# EAGLE library part 74LVC2G02 (library yapo)
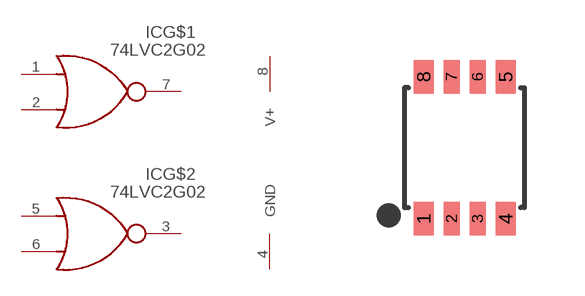
[diagram p50: symbol with the pads of TSSOP8; footprint TSSOP8]

Designator prefix IC; gates G$1=NOR_SINGLE_NP G$2=NOR_SINGLE_NP G$3=LOGIC_SUPPLY

## 74LVC2G02  [TSSOP8]
1  G$1:A
2  G$1:B
3  G$2:Y
4  G$3:GND
5  G$2:A
6  G$2:B
7  G$1:Y
8  G$3:V+

## Footprint TSSOP8 (pad centres in mm)
smd 0.5 x 0.85: 1 -1.025,-1.775; 4 1.025,-1.775; 5 1.025,1.775; 8 -1.025,1.775
smd 0.4 x 0.85: 2 -0.325,-1.775; 3 0.325,-1.775; 6 0.325,1.775; 7 -0.325,1.775